# Altium schematic symbol library SCH - MCU - SI LABS - SI LABS EFR32MG24B020F1536IM40 40-PIN QFN 5X5.SchLib: 1 symbol
Pins are listed as number, name and electrical type; pins without a type are passive.

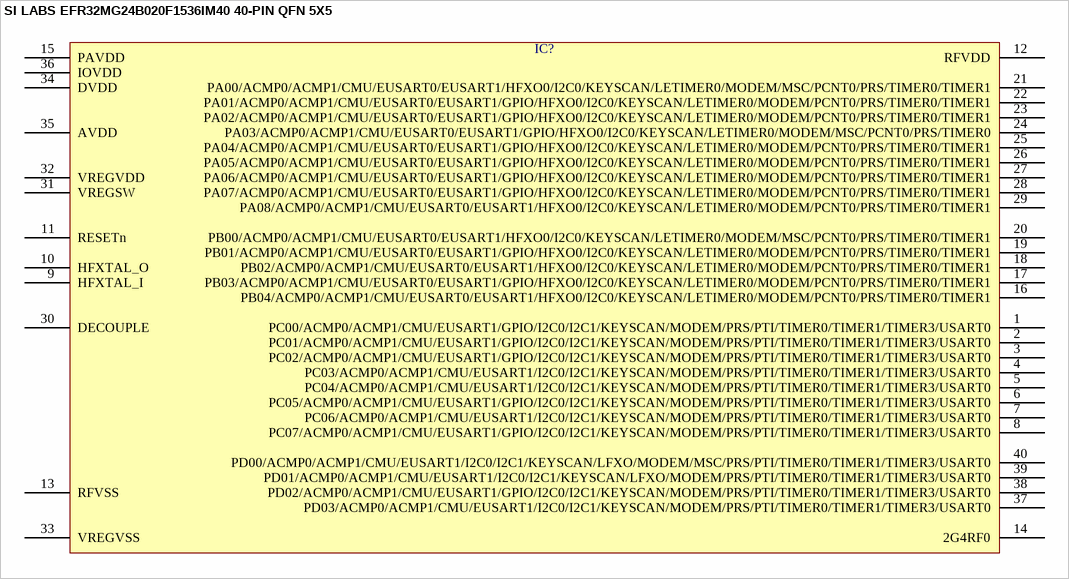
[diagram p0: symbol SI LABS EFR32MG24B020F1536IM40 40-PIN QFN 5X5]

## SI LABS EFR32MG24B020F1536IM40 40-PIN QFN 5X5
designator IC?  (value not drawn)
pins: 1 PC00/ACMP0/ACMP1/CMU/EUSART1/GPIO/I2C0/I2C1/KEYSCAN/MODEM/PRS/PTI/TIMER0/TIMER1/TIMER3/USART0, 2 PC01/ACMP0/ACMP1/CMU/EUSART1/GPIO/I2C0/I2C1/KEYSCAN/MODEM/PRS/PTI/TIMER0/TIMER1/TIMER3/USART0, 3 PC02/ACMP0/ACMP1/CMU/EUSART1/GPIO/I2C0/I2C1/KEYSCAN/MODEM/PRS/PTI/TIMER0/TIMER1/TIMER3/USART0, 4 PC03/ACMP0/ACMP1/CMU/EUSART1/I2C0/I2C1/KEYSCAN/MODEM/PRS/PTI/TIMER0/TIMER1/TIMER3/USART0, 5 PC04/ACMP0/ACMP1/CMU/EUSART1/I2C0/I2C1/KEYSCAN/MODEM/PRS/PTI/TIMER0/TIMER1/TIMER3/USART0, 6 PC05/ACMP0/ACMP1/CMU/EUSART1/GPIO/I2C0/I2C1/KEYSCAN/MODEM/PRS/PTI/TIMER0/TIMER1/TIMER3/USART0, 7 PC06/ACMP0/ACMP1/CMU/EUSART1/I2C0/I2C1/KEYSCAN/MODEM/PRS/PTI/TIMER0/TIMER1/TIMER3/USART0, 8 PC07/ACMP0/ACMP1/CMU/EUSART1/GPIO/I2C0/I2C1/KEYSCAN/MODEM/PRS/PTI/TIMER0/TIMER1/TIMER3/USART0, 9 HFXTAL_I, 10 HFXTAL_O, 11 RESETn, 12 RFVDD, 13 RFVSS, 14 2G4RF0, 15 PAVDD, 16 PB04/ACMP0/ACMP1/CMU/EUSART0/EUSART1/HFXO0/I2C0/KEYSCAN/LETIMER0/MODEM/PCNT0/PRS/TIMER0/TIMER1, 17 PB03/ACMP0/ACMP1/CMU/EUSART0/EUSART1/GPIO/HFXO0/I2C0/KEYSCAN/LETIMER0/MODEM/PCNT0/PRS/TIMER0/TIMER1, 18 PB02/ACMP0/ACMP1/CMU/EUSART0/EUSART1/HFXO0/I2C0/KEYSCAN/LETIMER0/MODEM/PCNT0/PRS/TIMER0/TIMER1, 19 PB01/ACMP0/ACMP1/CMU/EUSART0/EUSART1/GPIO/HFXO0/I2C0/KEYSCAN/LETIMER0/MODEM/PCNT0/PRS/TIMER0/TIMER1, 20 PB00/ACMP0/ACMP1/CMU/EUSART0/EUSART1/HFXO0/I2C0/KEYSCAN/LETIMER0/MODEM/MSC/PCNT0/PRS/TIMER0/TIMER1, 21 PA00/ACMP0/ACMP1/CMU/EUSART0/EUSART1/HFXO0/I2C0/KEYSCAN/LETIMER0/MODEM/MSC/PCNT0/PRS/TIMER0/TIMER1, 22 PA01/ACMP0/ACMP1/CMU/EUSART0/EUSART1/GPIO/HFXO0/I2C0/KEYSCAN/LETIMER0/MODEM/PCNT0/PRS/TIMER0/TIMER1, 23 PA02/ACMP0/ACMP1/CMU/EUSART0/EUSART1/GPIO/HFXO0/I2C0/KEYSCAN/LETIMER0/MODEM/PCNT0/PRS/TIMER0/TIMER1, 24 PA03/ACMP0/ACMP1/CMU/EUSART0/EUSART1/GPIO/HFXO0/I2C0/KEYSCAN/LETIMER0/MODEM/MSC/PCNT0/PRS/TIMER0, 25 PA04/ACMP0/ACMP1/CMU/EUSART0/EUSART1/GPIO/HFXO0/I2C0/KEYSCAN/LETIMER0/MODEM/PCNT0/PRS/TIMER0/TIMER1, 26 PA05/ACMP0/ACMP1/CMU/EUSART0/EUSART1/GPIO/HFXO0/I2C0/KEYSCAN/LETIMER0/MODEM/PCNT0/PRS/TIMER0/TIMER1, 27 PA06/ACMP0/ACMP1/CMU/EUSART0/EUSART1/GPIO/HFXO0/I2C0/KEYSCAN/LETIMER0/MODEM/PCNT0/PRS/TIMER0/TIMER1, 28 PA07/ACMP0/ACMP1/CMU/EUSART0/EUSART1/GPIO/HFXO0/I2C0/KEYSCAN/LETIMER0/MODEM/PCNT0/PRS/TIMER0/TIMER1, 29 PA08/ACMP0/ACMP1/CMU/EUSART0/EUSART1/HFXO0/I2C0/KEYSCAN/LETIMER0/MODEM/PCNT0/PRS/TIMER0/TIMER1, 30 DECOUPLE, 31 VREGSW, 32 VREGVDD, 33 VREGVSS, 34 DVDD, 35 AVDD, 36 IOVDD, 37 PD03/ACMP0/ACMP1/CMU/EUSART1/I2C0/I2C1/KEYSCAN/MODEM/PRS/PTI/TIMER0/TIMER1/TIMER3/USART0, 38 PD02/ACMP0/ACMP1/CMU/EUSART1/GPIO/I2C0/I2C1/KEYSCAN/MODEM/PRS/PTI/TIMER0/TIMER1/TIMER3/USART0, 39 PD01/ACMP0/ACMP1/CMU/EUSART1/I2C0/I2C1/KEYSCAN/LFXO/MODEM/PRS/PTI/TIMER0/TIMER1/TIMER3/USART0, 40 PD00/ACMP0/ACMP1/CMU/EUSART1/I2C0/I2C1/KEYSCAN/LFXO/MODEM/MSC/PRS/PTI/TIMER0/TIMER1/TIMER3/USART0